# Altium schematic symbol library AM32_ESC.SchLib: 28 symbols
Pins are listed as number, name and electrical type; pins without a type are passive.

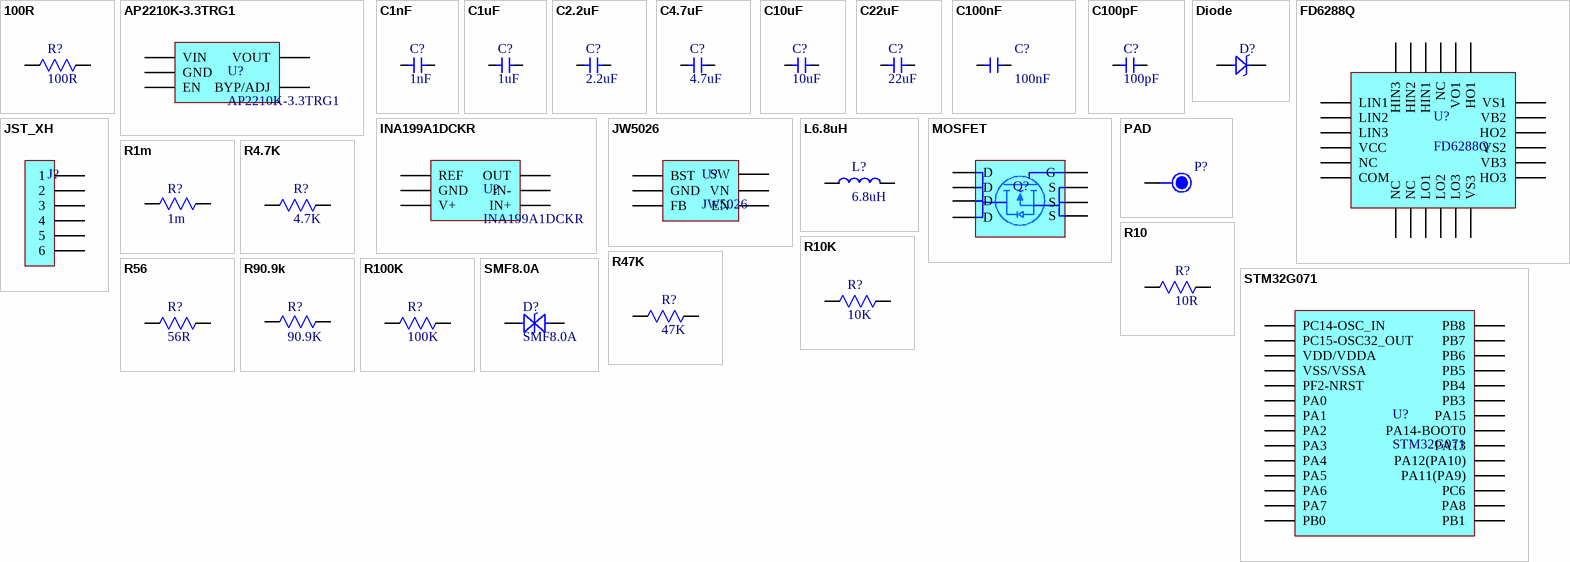
[diagram p0: symbols 100R to STM32G071]

## 100R
designator R?
footprint R0603
pins: 1, 2

## AP2210K-3.3TRG1
designator U?
footprint AP2210K-3.3TRG1
pins: 1 VIN, 2 GND, 3 EN, 4 BYP/ADJ, 5 VOUT

## C1nF
designator C?, comment 1nF
footprint C0603
pins: 1, 2

## C1uF
designator C?, comment 1uF
footprint C0603
pins: 1, 2

## C2.2uF
designator C?, comment 2.2uF
footprint C0603
pins: 1, 2

## C4.7uF
designator C?, comment 4.7uF
footprint C0603
pins: 1, 2

## C10uF
designator C?, comment 10uF
footprint C0603
pins: 1, 2

## C22uF
designator C?, comment 22uF
footprint C0805
pins: 1, 2

## C100nF
designator C?, comment 100nF
footprint C0805
pins: 1, 2

## C100pF
designator C?, comment 100pF
footprint C0603
pins: 1, 2

## Diode
designator D?  (value not drawn)
footprint SOD2512X116N
pins: 1, 2

## FD6288Q
designator U?
footprint FD6288Q
pins: 1 LIN1, 2 LIN2, 3 LIN3, 4 VCC, 5 NC, 6 COM, 7 NC, 8 NC, 9 LO1, 10 LO2, 11 LO3, 12 VS3, 13 HO3, 14 VB3, 15 VS2, 16 HO2, 17 VB2, 18 VS1, 19 HO1, 20 VO1, 21 NC, 22 HIN1, 23 HIN2, 24 HIN3

## INA199A1DCKR
designator U?
footprint INA199A1DCKR
pins: 1 REF, 2 GND, 3 V+, 4 IN+, 5 IN-, 6 OUT

## JST_XH
designator J?  (value not drawn)
footprint 6 pin header
pins: 1, 2, 3, 4, 5, 6

## JW5026
designator U?
footprint JW5026 (SOT23, 6-Leads, Body 2.91x2.80mm, Pitch 0.95mm, IPC Medium Density)
pins: 1 BST, 2 GND, 3 FB, 4 EN, 5 VN, 6 SW

## L6.8uH
designator L?, comment 6.8uH
footprint L0806
pins: 1, 2

## MOSFET
designator Q?, comment CSD19531  (value not drawn)
footprint MOSFET_CSD19531Q5A
pins: 1 S, 2 S, 3 S, 4 G, 5 D, 6 D, 7 D, 8 D

## PAD
designator P?  (value not drawn)
footprint PAD
pins: 1

## R1m
designator R?, comment 1m
footprint RESC5025X120N
pins: 1, 2

## R4.7K
designator R?, comment 4.7K
footprint R0603N
pins: 1, 2

## R10
designator R?, comment 10R
footprint R0603n
pins: 1, 2

## R10K
designator R?, comment 10K
footprint R0603n
pins: 1, 2

## R47K
designator R?, comment 47K
footprint R0603N
pins: 1, 2

## R56
designator R?, comment 56R
footprint R0603N
pins: 1, 2

## R90.9k
designator R?, comment 90.9K
footprint R0603N
pins: 1, 2

## R100K
designator R?, comment 100K
footprint R0603N
pins: 1, 2

## SMF8.0A
designator D?
footprint SMF8.0
pins: 1, 2

## STM32G071
designator U?
footprint STM32G071
pins: 1 PC14-OSC_IN, 2 PC15-OSC32_OUT, 3 VDD/VDDA, 4 VSS/VSSA, 5 PF2-NRST, 6 PA0, 7 PA1, 8 PA2, 9 PA3, 10 PA4, 11 PA5, 12 PA6, 13 PA7, 14 PB0, 15 PB1, 16 PA8, 17 PC6, 18 PA11(PA9), 19 PA12(PA10), 20 PA13, 21 PA14-BOOT0, 22 PA15, 23 PB3, 24 PB4, 25 PB5, 26 PB6, 27 PB7, 28 PB8